# Altium schematic symbol library ESP32-C3-DevKitC-02.SchLib: 1 symbol
Pins are listed as number, name and electrical type; pins without a type are passive.

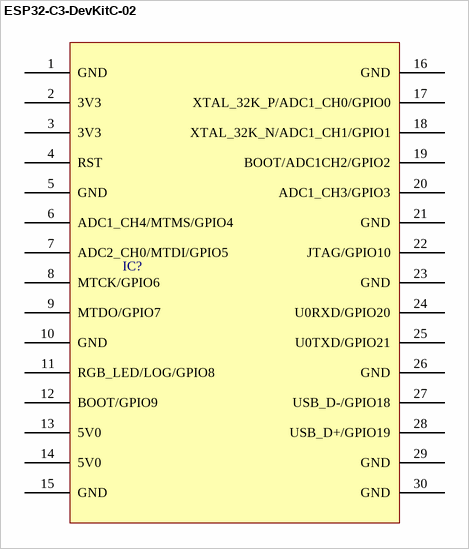
[diagram p0: symbol ESP32-C3-DevKitC-02]

## ESP32-C3-DevKitC-02
designator IC?
ESP32-C3-DevKitC-02 is an entry-level development board based on ESP32-C3-WROOM-02, a general-purpose module with 4 MB SPI flash. This board integrates complete Wi-Fi and Bluetooth LE functions.; Information: https://docs.espressif.com/projects/esp-idf/en/latest/esp32c3/hw-reference/esp32c3/user-guide-devkitc-02.html
footprint ESP32-C3-DevKitC-02 (ESP32-C3-DevKitC-02 is an entry-level development board based on ESP32-C3-WROOM-02, a general-purpose module with 4 MB SPI flash. This board integrates complete Wi-Fi and Bluetooth LE functions.)
pins: 1 GND, 2 3V3, 3 3V3, 4 RST, 5 GND, 6 ADC1_CH4/MTMS/GPIO4, 7 ADC2_CH0/MTDI/GPIO5, 8 MTCK/GPIO6, 9 MTDO/GPIO7, 10 GND, 11 RGB_LED/LOG/GPIO8, 12 BOOT/GPIO9, 13 5V0, 14 5V0, 15 GND, 16 GND, 17 XTAL_32K_P/ADC1_CH0/GPIO0, 18 XTAL_32K_N/ADC1_CH1/GPIO1, 19 BOOT/ADC1CH2/GPIO2, 20 ADC1_CH3/GPIO3, 21 GND, 22 JTAG/GPIO10, 23 GND, 24 U0RXD/GPIO20, 25 U0TXD/GPIO21, 26 GND, 27 USB_D-/GPIO18, 28 USB_D+/GPIO19, 29 GND, 30 GND